# Altium schematic symbol library uARM_2.SCHLIB: 26 symbols
Pins are listed as number, name and electrical type; pins without a type are passive.

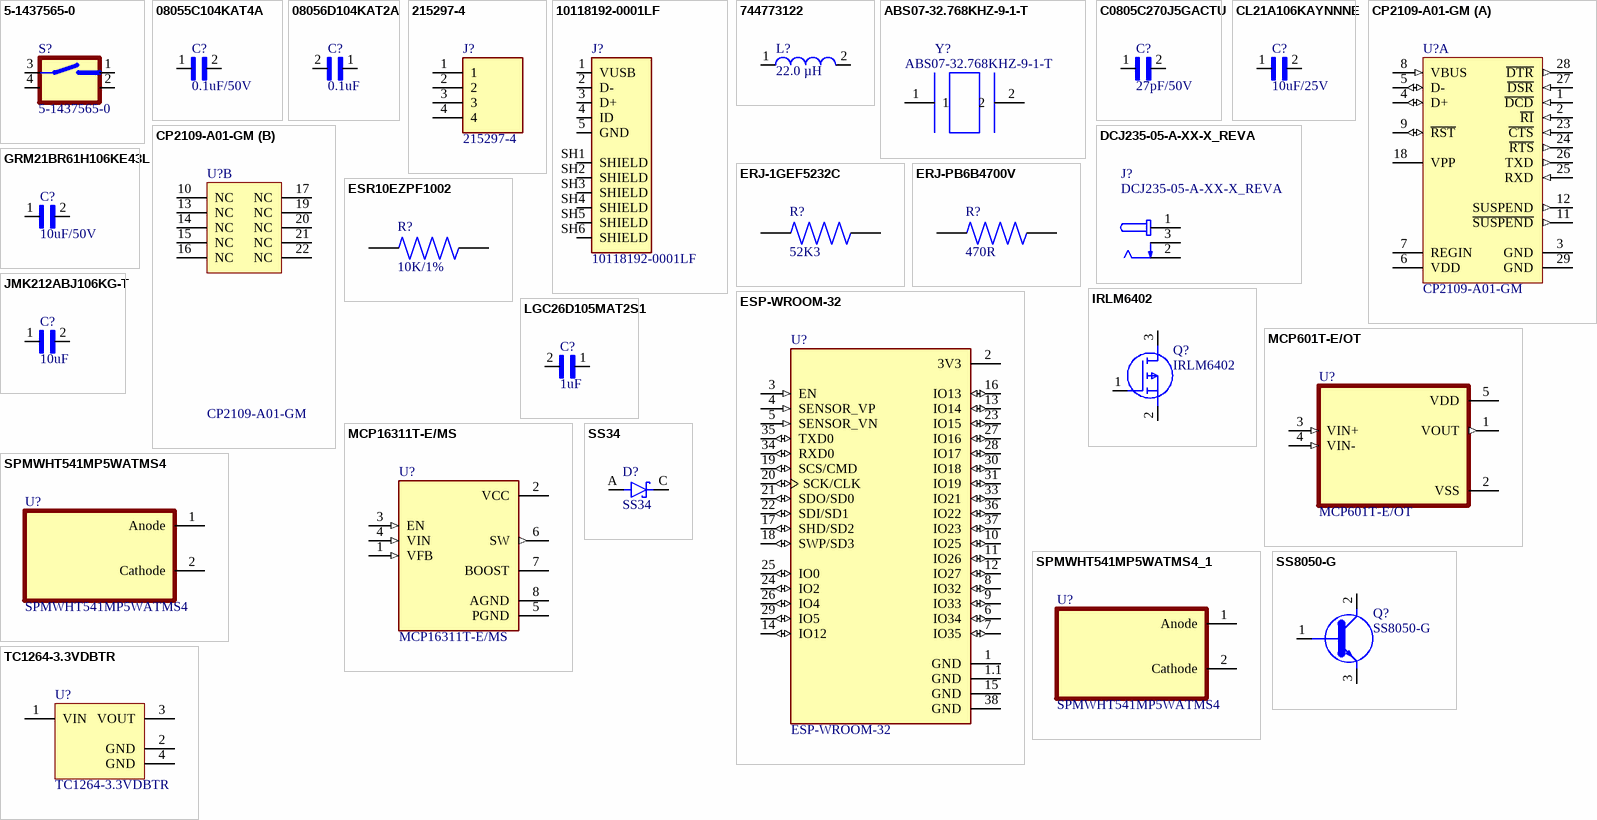
[diagram p0: symbols 5-1437565-0 to TC1264-3.3VDBTR]

## 5-1437565-0
designator S?
Switch Tactile OFF (ON) Round Button Gull Wing 0.05A 12VDC 1.57N SMD T/R; MF: {'manufacturer': u'TE Connectivity'}; MP: 5-1437565-0; Package: None; Price: None; Value: *; Availability: Unavailable
footprint SW_5-1437565-0
pins: 1 2, 2, 3 1, 4 1

## 08055C104KAT4A
designator C?  value 0.1uF/50V  (hidden comment: 08055C104KAT4A)
.1UF 50V 10% 0805; MF: {'manufacturer': u'AVX'}; Price: None; Package: None; Availability: Unavailable; MP: 08055C104KAT4A
footprint CAPC2012X94N
pins: 1, 2

## 08056D104KAT2A
designator C?  value 0.1uF  (hidden comment: 08056D104KAT2A)
CAP 0.1UF 6.3VDC X5R 10% SMD 0805; MF: {'manufacturer': u'AVX'}; Price: None; Availability: Unavailable; MP: 08056D104KAT2A; Package: None
footprint CAPC2012X140N
pins: 1, 2

## 215297-4
designator J?
MF: {'manufacturer': u'TE Connectivity'}; Package: None; Price: None; Availability: Unavailable; MP: 215297-4; Value: *
footprint TE_215297-4
pins: 1, 2, 3, 4

## 10118192-0001LF
designator J?
Single Port 5 Contact Horizontal Right Angle Shielded Micro B USB 2.0 Connector; MF: {'manufacturer': u'FCI'}; Package: None; MP: 10118192-0001LF; Price: None; Value: *; Availability: Unavailable
footprint AMPHENOL_10118192-0001LF
pins: 1 VUSB, 2 D-, 3 D+, 4 ID, 5 GND, SH1 SHIELD, SH2 SHIELD, SH3 SHIELD, SH4 SHIELD, SH5 SHIELD, SH6 SHIELD

## 744773122
designator L?  Inductance: 22.0 µH  (hidden comment: 744773122)
SMD Power Inductor WE-PD2, L = 22.0 µH; ComponentLink1Description: Manufacturer Link; ComponentLink2Description: Datasheet; DatasheetVersion: ver 1, Oct-2004; ComponentLink1URL: http://www.we-online.com; PackageVersion: 2004; PackageDescription: SMD Inductor, 2-Leads, Body 4.5 x 4.0 mm; ComponentLink2URL: http://www.we-online.de/katalog/media/pdf/744773122.pdf; PackageReference: WE-PD2-S; PartNumber: 744773122
footprint WE-PD2-S
pins: 1, 2

## ABS07-32.768KHZ-9-1-T
designator Y?
ABS07 Series 32.768 kHz Â±20 ppm 12.5 pF -40 to +85 C SMT Low Profile Crystal; MF: {'manufacturer': u'Abracon'}; Package: None; MP: ABS07-32.768KHZ-9-1-T; Price: None; Value: *; Availability: Unavailable
footprint XTAL320X150X90
pins: 1, 2

## C0805C270J5GACTU
designator C?  value 27pF/50V  (hidden comment: C0805C270J5GACTU)
Ceramic Multilayer Capacitor; Capacitor Type:General Purpose; Capacitance:27pF; Capacitance Tolerance:Â± 5%; Voltage Rating:50V; Capacitor Dielectric Type:Multilayer Ceramic; Package/Case:0805; Termination Type:SMD ;RoHS Compliant: Yes; MF: {'manufacturer': u'KEMET'}; MP: C0805C270J5GACTU; Package: None; Price: None; Availability: Unavailable
footprint CAPC2012X88N
pins: 1, 2

## CL21A106KAYNNNE
designator C?  value 10uF/25V  (hidden comment: CL21A106KAYNNNE)
Cap Ceramic 10uF 25V X5R 10% SMD 0805 85Â°C Embossed T/R; MF: {'manufacturer': u'Samsung'}; MP: CL21A106KAYNNNE; Package: None; Availability: Unavailable; Price: None
footprint CAPC2012X135N
pins: 1, 2

## CP2109-A01-GM
designator U?
Single-Chip USB to UART Bridge, 1024 Bytes EEPROM, -40 to 85 degC, 28-pin QFN, Tube; Manufacturer: Silicon Labs; Sub-Family: USB Bridges; Internal Oscillator: TRUE; ComponentLink1Description: Manufacturer URL; ComponentLink2Description: Datasheet; PartNumber: CP2109-A01-GM; ComponentLink3Description: Package Specification; ComponentLink3URL: http://www.silabs.com/Support%20Documents/TechnicalDocs/C8051T61x.pdf; DatasheetVersion: Rev. 1.5; ComponentLink1URL: http://www.silabs.com/; ComponentLink2URL: http://www.silabs.com/Support%20Documents/TechnicalDocs/CP2102-9.pdf; Code_IPC: J-STD-020C; Mounting Technology: Surface Mount; PackageDescription: 28-Pin Quad-Flat No-Leads Package, Body 5 x 5 mm, Pitch 0.5 mm; Code_JEDEC: MO-220; EEPROM: 1024 Bytes; PackageReference: QFN-28
footprint SLAB-QFN-28-3125x3125TP_L
footprint SLAB-QFN-28-3125x3125TP_N
footprint SLAB-QFN-28-3125x3125TP_M
part A pins: 1 ~{DCD} (in) "Data Carrier Detect control input (active low)", 2 ~{RI} (in) "Ring Indicator control input (active low)", 3 GND (power) "Ground", 4 D+ (io) "USB D+", 5 D- (io) "USB D-", 6 VDD (power) "3.0-3.6 V Power Supply Voltage Input. 3.3 V Voltage Regulator Output", 7 REGIN (power) "5 V Regulator Input. This pin is the input to the on-chip voltage regulator.", 8 VBUS (in) "VBUS Sense Input. This pin should be connected to the VBUS signal of a USB network. A 5 V signal on this pin indicates a USB network connection.", 9 ~{RST} (io) "Device Reset. Open-drain output of internal POR or VDD monitor. An external source can initiate a system reset by driving this pin low for at least 15 us.", 11 ~{SUSPEND} (out) "This pin is driven low when the CP2102/9 enters the USB suspend state.", 12 SUSPEND (out) "This pin is driven high when the CP2102/9 enters the USB suspend state.", 18 VPP "VPP Programming Supply Voltage", 23 ~{CTS} (in) "Clear To Send control input (active low)", 24 ~{RTS} (out) "Ready to Send control output (active low)", 25 RXD (in) "Asynchronous data input (UART Receive)", 26 TXD (out) "Asynchronous data output (UART Transmit)", 27 ~{DSR} (in) "Data Set Ready control input (active low)", 28 ~{DTR} (out) "Data Terminal Ready control output (active low)", 29 GND (power) "Ground"
part B pins: 10 NC "These pins should be left unconnected or tied to VDD.", 13 NC "These pins should be left unconnected or tied to VDD.", 14 NC "These pins should be left unconnected or tied to VDD.", 15 NC "These pins should be left unconnected or tied to VDD.", 16 NC "These pins should be left unconnected or tied to VDD.", 17 NC "These pins should be left unconnected or tied to VDD.", 19 NC "These pins should be left unconnected or tied to VDD.", 20 NC "These pins should be left unconnected or tied to VDD.", 21 NC "These pins should be left unconnected or tied to VDD.", 22 NC "These pins should be left unconnected or tied to VDD."

## DCJ235-05-A-XX-X_REVA
designator J?
DC Power Jack, Thru-Hole, Horizontal, with Locating Pegs, D2.35mm; MF: {'manufacturer': u'Global Connector Technology'}; Availability: Unavailable; Package: None; Price: None; MP: DCJ235-05-A-XX-X_REVA; Value: *
footprint GCT_DCJ235-05-A-XX-X_REVA
pins: 1, 2, 3

## ERJ-1GEF5232C
designator R?  value 52K3  (hidden comment: ERJ-1GEF5232C)
Res Thick Film 0201 52.3K Ohm 1% 0.05W(1/20W) Â±200ppm/C SMD T/R; MF: {'manufacturer': u'Panasonic'}; Package: None; MP: ERJ-1GEF5232C; Availability: Unavailable; Price: None
footprint RESC0603X26N
pins: 1, 2

## ERJ-PB6B4700V
designator R?  value 470R  (hidden comment: ERJ-PB6B4700V)
MF: {'manufacturer': u'Panasonic'}; Price: None; Availability: Unavailable; MP: ERJ-PB6B4700V; Package: None
footprint RESC2012X70N
pins: 1, 2

## ESP-WROOM-32
designator U?
Module: combo; GPIO, I2C x2, I2S x2, SDIO, SPI x3, UART x3; 19.5dBm; MF: {'manufacturer': u'Espressif Systems'}; Availability: Unavailable; MP: ESP-WROOM-32; Value: *; Price: None; Package: None
footprint MODULE_ESP-WROOM-32
pins: 1 GND (power), 1.1 GND (power), 2 3V3 (power), 3 EN (in), 4 SENSOR_VP (in), 5 SENSOR_VN (in), 6 IO34 (io), 7 IO35 (io), 8 IO32 (io), 9 IO33 (io), 10 IO25 (io), 11 IO26 (io), 12 IO27 (io), 13 IO14 (io), 14 IO12 (io), 15 GND (power), 16 IO13 (io), 17 SHD/SD2 (io), 18 SWP/SD3 (io), 19 SCS/CMD (io), 20 SCK/CLK (io), 21 SDO/SD0 (io), 22 SDI/SD1 (io), 23 IO15 (io), 24 IO2 (io), 25 IO0 (io), 26 IO4 (io), 27 IO16 (io), 28 IO17 (io), 29 IO5 (io), 30 IO18 (io), 31 IO19 (io), 33 IO21 (io), 34 RXD0 (io), 35 TXD0 (io), 36 IO22 (io), 37 IO23 (io), 38 GND (power)

## ESR10EZPF1002
designator R?  value 10K/1%  (hidden comment: ESR10EZPF1002)
RES SMD 10K OHM 1% 0.4W 0805; MF: {'manufacturer': u'Rohm'}; Price: None; Package: None; Availability: Unavailable; MP: ESR10EZPF1002
footprint RESC2012X65N
pins: 1, 2

## GRM21BR61H106KE43L
designator C?  value 10uF/50V  (hidden comment: GRM21BR61H106KE43L)
SMD Capacitor X5R(EIA) with Capacitance: 10uF Tol. 10%. Rated Voltage: 50Vdc; MF: {'manufacturer': u'Murata Electronics'}; MP: GRM21BR61H106KE43L; Package: None; Availability: Unavailable; Price: None
footprint CAPC2012X145N
pins: 1, 2

## IRLM6402
designator Q?
MOSFET (P-Channel); Manufacturer_Name: Infineon; Datasheet Link: https://www.kynix.com/Detail/613549/IRLM6402.html; Height: 1.12mm; Manufacturer_Part_Number: IRLM6402
footprint SOT95P237X112-3N
pins: 1 G, 2 S, 3 D

## JMK212ABJ106KG-T
designator C?  value 10uF  (hidden comment: JMK212ABJ106KG-T)
CAP CER 10UF 6.3V X5R 0805; MF: {'manufacturer': u'Taiyo Yuden'}; MP: JMK212ABJ106KG-T; Package: None; Price: None; Availability: Unavailable
footprint CAPC2012X140N
pins: 1, 2

## LGC26D105MAT2S1
designator C?  value 1uF  (hidden comment: LGC26D105MAT2S1)
CAP CER 1UF 6.3V X5R 0805; MF: {'manufacturer': u'AVX'}; Price: None; Availability: Unavailable; MP: LGC26D105MAT2S1; Package: None
footprint CAPC2012X140N
pins: 1, 2

## MCP601T-E/OT
designator U?
MF: {'manufacturer': u'Microchip'}; Package: None; MP: MCP601T-E/OT; Price: None; Value: *; Availability: Unavailable
footprint SOT95P270X145-5N
pins: 1 VOUT (out), 2 VSS (power), 3 VIN+ (in), 4 VIN- (in), 5 VDD (power)

## MCP16311T-E/MS
designator U?
The MCP16311/2 is a compact, high-efficiency, fixed frequency, synchronous step-down DC-DC converter in an 8-pin MSOP, or 2 x 3 TDFN package that operates from input voltage sources up to 30V. Integrated features include a high-side and a low-side switch, fixed frequency peak current mode control, internal compensation, peak current limit and overtemperature protection. The MCP16311/2 provides all the active functions for local DC-DC conversion, with fast transient response and accurate regulation.; MF: {'manufacturer': u'Microchip Technology'}; MP: MCP16311T-E/MS; Value: *; Package: None; Price: None; Availability: Unavailable
footprint SOP65P490X110-8N
pins: 1 VFB (in), 2 VCC (power), 3 EN (in), 4 VIN (in), 5 PGND (power), 6 SW (out), 7 BOOST, 8 AGND (power)

## SPMWHT541MP5WATMS4
designator U?
MF: {'manufacturer': u'Samsung Semiconductor,'}; Package: None; Value: *; MP: SPMWHT541MP5WATMS4; Availability: Unavailable; Price: None
footprint LED_SPMWHT541MP5WAPKS4
pins: 1 Anode (power), 2 Cathode (power)

## SPMWHT541MP5WATMS4_1
designator U?, comment SPMWHT541MP5WATMS4
MF: {'manufacturer': u'Samsung Semiconductor,'}; Package: None; Value: *; MP: SPMWHT541MP5WATMS4; Availability: Unavailable; Price: None
footprint LED_SPMWHT541MP5WAPKS4
pins: 1 Anode (power), 2 Cathode (power)

## SS34
designator D?
Diode Schottky 40V 3A 2-Pin SMC T/R; MF: {'manufacturer': u'ON Semiconductor'}; Availability: Unavailable; Package: None; MP: SS34; Value: *; Price: None
footprint DIOM7959X265N
pins: A, C K

## SS8050-G
designator Q?
<b>Bipolar Transistors - BJT NPN TRANSISTOR 1.5A 40V</b><p> Source: <a href="https://componentsearchengine.com/Datasheets/1/SS8050-G.pdf"> Datasheet </a>; MF: {'manufacturer': u'Comchip Technology'}; Package: None; Value: *; MP: SS8050-G; Availability: Unavailable; Price: None
footprint MBTB-T-SOT23
pins: 1 B (io), 2 E (io), 3 C (io)

## TC1264-3.3VDBTR
designator U?
800 mA Fixed-Output CMOS LDO with Shutdown, 3-Pin SOT-223, Extended Temperature, Tape and Reel; PackageVersion: revBB, Aug-2009; PackageReference: SOT-223-DB3; PackageDescription: 3-Lead Plastic Small Outline Transistor (DB) [SOT-223]; DatasheetVersion: revC, Oct-2006; PartNumber: TC1264-3.3VDBTR
footprint SOT-223-DB3_L
footprint SOT-223-DB3_N
footprint SOT-223-DB3_M
pins: 1 VIN (power), 2 GND (power), 3 VOUT (power), 4 GND (power)